# Altium footprint library UC3856.PcbLib: 1 footprints
Each footprint in its own frame and in the unit in brackets; x right, y up, seen from the top. Pads: shape width x height; smd on the part's side, far side on the other; paste and mask are expansions set on the pad; w line width, h text height; cw(c..) or ccw(c..) is an arc to the next point about the centre after c.
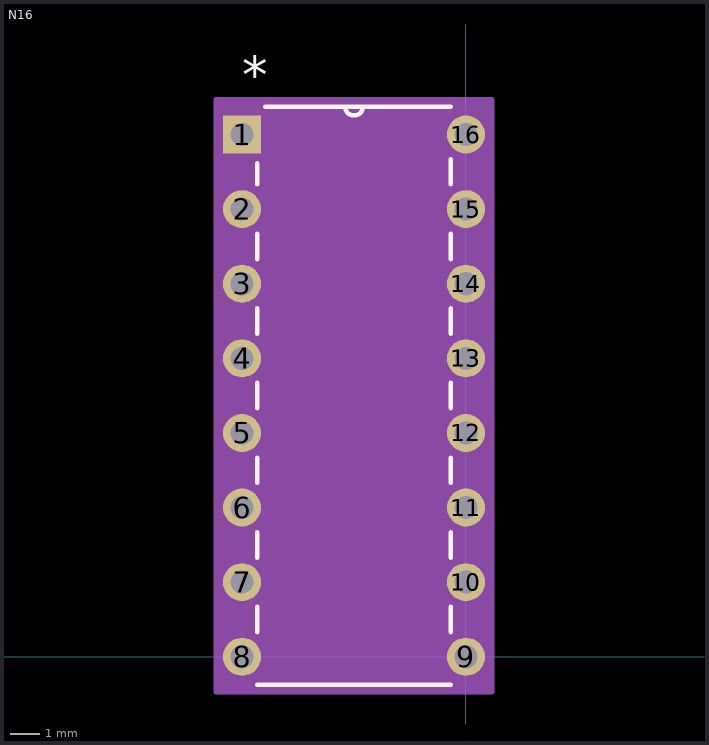
[diagram p0: the footprint, top view; thin cyan lines are the x and y axes]

## N16 [mil]
pads (16):
  rect 51x51 / inner round 60 / far side rect 51x51 hole 31: 1(-300,700)
  round 51 / inner round 60 / far side round 51 hole 31: 2(-300,600) 3(-300,500) 4(-300,400) 5(-300,300) 6(-300,200) 7(-300,100) 8(-300,0) 9(0,0) 10(0,100) 11(0,200) 12(0,300) 13(0,400) 14(0,500) 15(0,600) 16(0,700)
Top Overlay:
  lines w6: -280,-37.5 -20,-37.5 ; -280,33.01 -280,66.99 ; -280,133.01 -280,166.99 ; -280,233.01 -280,266.99 ; -280,333.01 -280,366.99 ; -280,433.01 -280,466.99 ; -280,533.01 -280,566.99 ; -280,633.01 -280,661.4 ; -269.25,737.5 -20,737.5 ; -162,737.5 ccw(c-150,737.5) -138,737.5 ; -20,33.01 -20,66.99 ; -20,133.01 -20,166.99 ; -20,233.01 -20,266.99 ; -20,333.01 -20,366.99 ; -20,433.01 -20,466.99 ; -20,533.01 -20,566.99 ; -20,633.01 -20,666.99
  text "*" at -300,755.5 h50
Mechanical 13:
  lines w0: -162,737.5 ccw(c-150,737.5) -138,737.5
  text "*" at -300,755.5 h50
Mechanical 15:
  region: 35.5,-47.5 -335.5,-47.5 -335.5,747.5 35.5,747.5
  lines w6: -335.5,-47.5 -335.5,747.5 35.5,747.5 35.5,-47.5 -335.5,-47.5